# Altium footprint library PcbLib2.PcbLib: 31 footprints (part 2 of 2)
Each footprint in its own frame and in the unit in brackets; x right, y up, seen from the top. Pads: shape width x height; smd on the part's side, far side on the other; paste and mask are expansions set on the pad; w line width, h text height; cw(c..) or ccw(c..) is an arc to the next point about the centre after c.
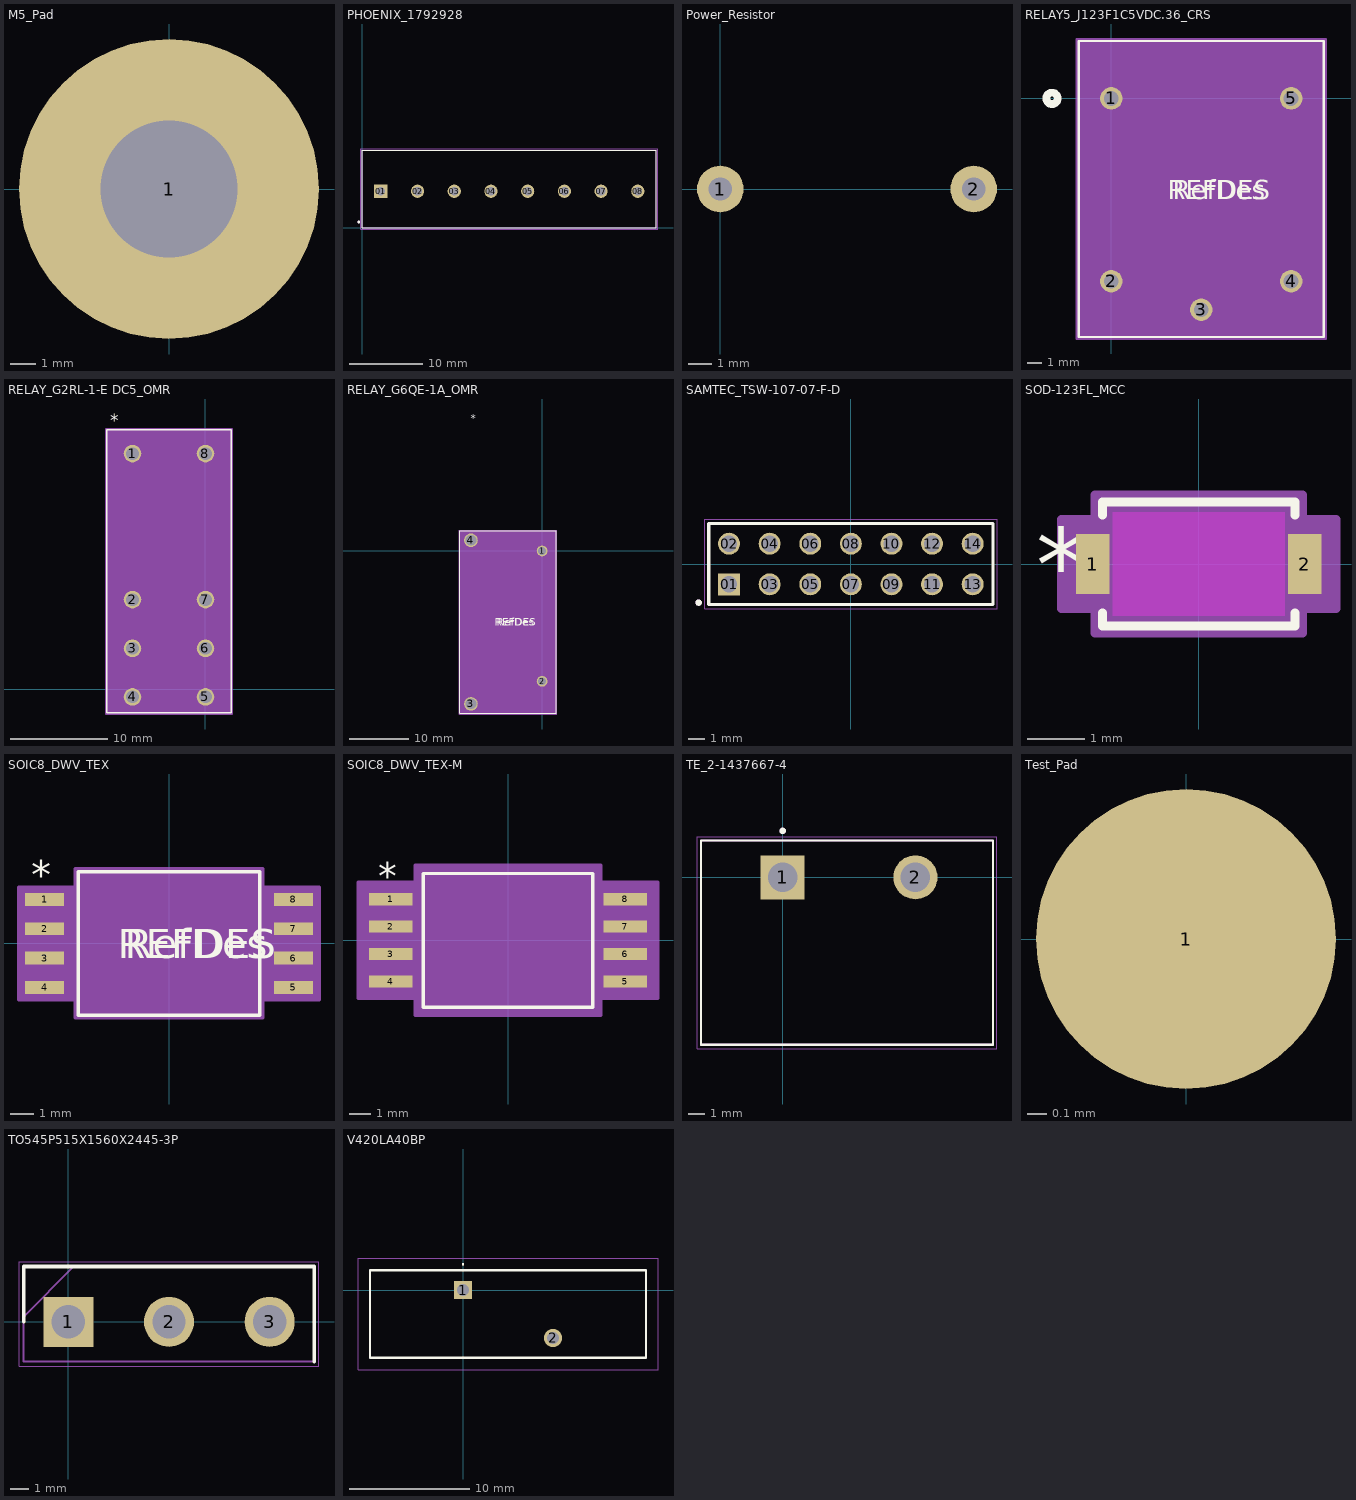
[diagram p1: the footprints below, top view; thin cyan lines are the x and y axes]

## M5_Pad [mm]
pads (1):
  round 12 hole 5.5: 1(0,0)

## PCBComponent_1 [mm]

## PHOENIX_1792928 [mm]
pads (8):
  rect 1.8x1.8 / inner round 1.8 / far side rect 1.8x1.8 hole 1.2: 01(2.5,4.95)
  round 1.8 hole 1.2: 02(7.5,4.95) 03(12.5,4.95) 04(17.5,4.95) 05(22.5,4.95) 06(27.5,4.95) 07(32.5,4.95) 08(37.5,4.95)
Top Overlay:
  circle w0.2: c-0.508,0.762 r0.1
  lines w0.127: 0,0 40,0 40,10.5 0,10.5 0,0
Mechanical 13:
  circle w0.2: c-0.508,0.762 r0.1
  lines w0.127: 0,0 40,0 40,10.5 0,10.5 0,0
Mechanical 15:
  lines w0.05: -0.25,-0.25 40.25,-0.25 40.25,10.75 -0.25,10.75 -0.25,-0.25
3D body "1792928.stp": height 13.6, standoff -2.5, extent 0,-0.05 40,10.45

## Power_Resistor [mm]
pads (2):
  round 2 hole 1: 1(0,0) 2(10.9,0)
3D body "PF2472-200RF1.stp": height 20, standoff -14.5, extent -2.5,-1.8 13.5,3

## RELAY5_J123F1C5VDC.36_CRS [mil]
pads (5):
  round 59 / inner round 60 / far side round 59 hole 39 paste-99999 mask+0: 1(0,0) 2(0,-480.31) 3(236.22,-555.12) 4(472.44,-480.31) 5(472.44,0)
Top Overlay:
  circle w20: c-155.78,0 r15
  lines w6: -85.78,-627.05 558.22,-627.05 558.22,150.95 -85.78,150.95 -85.78,-627.05
  text "RefDes" at 161.22,-265.16 h50
  text "REFDES" at 148.72,-265.16 h50
Bottom Overlay:
  circle w20: c-155.78,0 r15
Mechanical 13:
  circle w20: c0,75 r15
  lines w1: -80.78,-622.05 553.22,-622.05 553.22,145.95 -80.78,145.95 -80.78,-622.05
  text "RefDes2" at 148.72,-265.16 h50
Mechanical 15:
  region: 563.22,155.95 -90.78,155.95 -90.78,-632.05 563.22,-632.05
  lines w6: -90.78,-632.05 -90.78,155.95 563.22,155.95 563.22,-632.05 -90.78,-632.05

## RELAY_G2RL-1-E DC5_OMR [mil]
pads (8):
  round 71 / inner round 60 / far side round 71 hole 51 paste-99999 mask+0: 1(-295.28,952.76) 2(-295.28,362.2) 3(-295.28,165.35) 4(-295.28,-31.5) 5(0,-31.5) 6(0,165.35) 7(0,362.2) 8(0,952.76)
Top Overlay:
  lines w6: -398.7,-95.55 -398.7,1048.31 103.43,1048.31 103.43,-95.55 -398.7,-95.55
  text "*" at -385.83,1062.99 h50
Mechanical 13:
  lines w0: -159.64,1043.31 ccw(c-147.64,1043.31) -135.64,1043.31
  lines w1: -393.7,-90.55 -393.7,1043.31 98.43,1043.31 98.43,-90.55 -393.7,-90.55
Mechanical 15:
  region: 98.43,-90.55 -393.7,-90.55 -393.7,1043.31 98.43,1043.31
  region: 108.43,-100.55 -403.7,-100.55 -403.7,1053.31 108.43,1053.31
  lines w6: -403.7,-100.55 108.43,-100.55 108.43,1053.31 -403.7,1053.31 -403.7,-100.55
3D body "G2RL_1_E_HA.step": height 618.11, standoff -137.8, extent -397.64,-94.49 102.36,1047.24

## RELAY_G6QE-1A_OMR [mm]
pads (4):
  round 1.808 / inner round 1.524 / far side round 1.808 hole 1.3 paste-2539.97 mask+0: 1(0,0) 2(0,-22)
  round 2.308 / inner round 1.524 / far side round 2.308 hole 1.8 paste-2539.97 mask+0: 3(-12,-25.8) 4(-12,1.8)
Top Overlay:
  lines w0.152: -13.877,-27.377 -13.877,3.377 2.377,3.377 2.377,-27.377 -13.877,-27.377
  text "REFDES" at -7.972,-12.635 h1.27
  text "RefDes" at -7.655,-12.635 h1.27
  text "*" at -12.067,21.83 h1.27
Mechanical 13:
  lines w0: -6.055,3.25 ccw(c-5.75,3.25) -5.445,3.25
  lines w0.025: -13.75,-27.25 -13.75,3.25 2.25,3.25 2.25,-27.25 -13.75,-27.25
  text "RefDes2" at -7.972,-12.635 h1.27
  text "*" at -12.067,18.93 h1.27
Mechanical 15:
  region: 2.25,-27.25 -13.75,-27.25 -13.75,3.25 2.25,3.25
  region: 2.504,-27.504 -14.004,-27.504 -14.004,3.504 2.504,3.504
  lines w0.152: -14.004,-27.504 2.504,-27.504 2.504,3.504 -14.004,3.504 -14.004,-27.504

## SAMTEC_TSW-107-07-F-D [mm]
pads (14):
  rect 1.37x1.37 hole 1.02: 01(-7.62,-1.27)
  round 1.37 hole 1.02: 02(-7.62,1.27) 03(-5.08,-1.27) 04(-5.08,1.27) 05(-2.54,-1.27) 06(-2.54,1.27) 07(0,-1.27) 08(0,1.27) 09(2.54,-1.27) 10(2.54,1.27) 11(5.08,-1.27) 12(5.08,1.27) 13(7.62,-1.27) 14(7.62,1.27)
Top Overlay:
  circle w0.2: c-9.525,-2.413 r0.1
  lines w0.2: -8.89,-2.54 -8.89,2.54 8.89,2.54 8.89,-2.54 -8.89,-2.54
Mechanical 13:
  circle w0.2: c-9.525,-2.413 r0.1
  lines w0.1: -8.89,-2.54 -8.89,2.54 ; -8.89,-2.54 8.89,-2.54 ; -8.89,-2.54 -8.89,2.54 ; -8.89,2.54 8.89,2.54 ; -8.89,2.54 8.89,2.54 ; 8.89,-2.54 8.89,2.54 ; 8.89,-2.54 8.89,2.54
Mechanical 15:
  lines w0.05: -9.14,-2.79 -9.14,2.79 9.14,2.79 9.14,-2.79 -9.14,-2.79

## SOD-123FL_MCC [mil]
pads (2):
  rect 23x41 smd paste+0 mask+0: 1(-72.5,0) 2(72.5,0)
Top Layer keep-out:
  region: -59,-35.5 -59,35.5 59,35.5 59,-35.5
Top Overlay:
  lines w6: -66,-33.6 -66,-42.5 66,-42.5 66,-33.6 ; -66,33.6 -66,42.5 66,42.5 66,33.6
  text "*" at -111.5,-25 h50
Keep-Out Layer:
  region: -59,-35.5 -59,35.5 59,35.5 59,-35.5
Mechanical 13:
  lines w1: -61,-18.75 -42.25,-37.5 ; -61,18.75 -42.25,37.5 ; -76,-20.5 -61,-20.5 -61,20.5 -76,20.5 -76,-20.5 ; -61,-37.5 -61,37.5 61,37.5 61,-37.5 -61,-37.5 ; 61,-20.5 76,-20.5 76,20.5 61,20.5 61,-20.5
Mechanical 15:
  region: -71,-30.5 -94,-30.5 -94,30.5 -71,30.5 -71,47.5 71,47.5 71,30.5 94,30.5 94,-30.5 71,-30.5 71,-47.5 -71,-47.5
  lines w6: -94,-30.5 -71,-30.5 -71,-47.5 71,-47.5 71,-30.5 94,-30.5 94,30.5 71,30.5 71,47.5 -71,47.5 -71,30.5 -94,30.5 -94,-30.5
3D body "SOD-123FL_MCC.step": height 53.27, standoff 0, extent -75.98,-37.48 75.98,37.48

## SOIC8_DWV_TEX [mil]
pads (8):
  rect 67x22 smd paste+0 mask+0: 1(-212,75) 2(-212,25) 3(-212,-25) 4(-212,-75) 5(212,-75) 6(212,-25) 7(212,25) 8(212,75)
Top Overlay:
  lines w6: -154.5,-122 -154.5,122 154.5,122 154.5,-122 -154.5,-122
  text "RefDes" at -75,-25 h50
  text "*" at -234.5,92 h50
  text "REFDES" at -87.5,-25 h50
Mechanical 13:
  lines w0: -12,117 ccw(c0,117) 12,117
  lines w1: -231.5,-85 -149.5,-85 -149.5,-65 -231.5,-65 -231.5,-85 ; -231.5,-35 -149.5,-35 -149.5,-15 -231.5,-15 -231.5,-35 ; -231.5,15 -149.5,15 -149.5,35 -231.5,35 -231.5,15 ; -231.5,65 -149.5,65 -149.5,85 -231.5,85 -231.5,65 ; -149.5,-117 -149.5,117 149.5,117 149.5,-117 -149.5,-117 ; 149.5,-85 231.5,-85 231.5,-65 149.5,-65 149.5,-85 ; 149.5,-35 231.5,-35 231.5,-15 149.5,-15 149.5,-35 ; 149.5,15 231.5,15 231.5,35 149.5,35 149.5,15 ; 149.5,65 231.5,65 231.5,85 149.5,85 149.5,65
  text "RefDes2" at -87.5,-25 h50
  text "*" at -147,64 h50
Mechanical 15:
  region: -159.5,-96 -255.5,-96 -255.5,96 -159.5,96 -159.5,127 159.5,127 159.5,96 255.5,96 255.5,-96 159.5,-96 159.5,-127 -159.5,-127
  lines w6: -255.5,-96 -159.5,-96 -159.5,-127 159.5,-127 159.5,-96 255.5,-96 255.5,96 159.5,96 159.5,127 -159.5,127 -159.5,96 -255.5,96 -255.5,-96
3D body "SOIC8_DWV_TEX.step": height 110.12, standoff 0, extent -231.5,-117.01 231.5,117.01

## SOIC8_DWV_TEX-M [mil]
pads (8):
  rect 79x22 smd paste+0 mask+0: 1(-214,75) 2(-214,25) 3(-214,-25) 4(-214,-75) 5(214,-75) 6(214,-25) 7(214,25) 8(214,75)
Top Overlay:
  lines w6: -154.5,-122 154.5,-122 154.5,122 -154.5,122 -154.5,-122
  text "*" at -236.5,92 h50
Mechanical 13:
  lines w0: -12,117 ccw(c0,117) 12,117
  lines w1: -231.5,-85 -231.5,-65 -149.5,-65 -149.5,-85 -231.5,-85 ; -231.5,-35 -231.5,-15 -149.5,-15 -149.5,-35 -231.5,-35 ; -231.5,15 -231.5,35 -149.5,35 -149.5,15 -231.5,15 ; -231.5,65 -231.5,85 -149.5,85 -149.5,65 -231.5,65 ; -149.5,-117 149.5,-117 149.5,117 -149.5,117 -149.5,-117 ; 149.5,-85 149.5,-65 231.5,-65 231.5,-85 149.5,-85 ; 149.5,-35 149.5,-15 231.5,-15 231.5,-35 149.5,-35 ; 149.5,15 149.5,35 231.5,35 231.5,15 149.5,15 ; 149.5,65 149.5,85 231.5,85 231.5,65 149.5,65
Mechanical 15:
  region: -169.5,-106 -273.5,-106 -273.5,106 -169.5,106 -169.5,137 169.5,137 169.5,106 273.5,106 273.5,-106 169.5,-106 169.5,-137 -169.5,-137
  lines w6: -273.5,-106 -273.5,106 -169.5,106 -169.5,137 169.5,137 169.5,106 273.5,106 273.5,-106 169.5,-106 169.5,-137 -169.5,-137 -169.5,-106 -273.5,-106
3D body "SOIC8_DWV_TEX.step": height 110.12, standoff 0, extent -231.5,-117.01 231.5,117.01

## TE_2-1437667-4 [mil]
pads (2):
  rect 108x108 hole 72: 1(0,0)
  round 108 hole 72: 2(325,0)
Top Overlay:
  circle w7.87: c0,113.78 r3.94
  lines w5: -200,-410 -200,90 515,90 515,-410 -200,-410
Mechanical 13:
  circle w7.87: c0,113.78 r3.94
  lines w5: -200,-410 -200,90 515,90 515,-410 -200,-410
Mechanical 15:
  lines w1.97: -209.84,-419.84 524.84,-419.84 524.84,99.84 -209.84,99.84 -209.84,-419.84
3D body "c-2-1437667-4-n-3d.stp": height 570, standoff -160, extent -200.02,-409.45 514.98,90.55

## Test_Pad [mil]
pads (1):
  round 60 smd: 1(0,0)

## TO545P515X1560X2445-3P [mm]
pads (3):
  rect 2.715x2.715 / inner round 2.715 / far side rect 2.715x2.715 hole 1.81: 1(0,0)
  round 2.715 hole 1.81: 2(5.45,0) 3(10.9,0)
Top Overlay:
  lines w0.2: -2.425,0 -2.425,3 13.325,3 13.325,-2.15
Mechanical 15:
  lines w0.1: -2.425,0.275 0.3,3 ; -2.425,-2.15 13.325,-2.15 13.325,3 -2.425,3 -2.425,-2.15
Mechanical 20:
  lines w0.05: -2.675,-2.4 13.575,-2.4 13.575,3.25 -2.675,3.25 -2.675,-2.4
3D body "STGW20NC60VD.step": height 25.1, standoff -10, extent -2.3,-2.1 13.3,2.9

## V420LA40BP [mm]
pads (2):
  rect 1.515x1.515 hole 1.01: 1(0,0)
  round 1.515 hole 1.01: 2(7.5,-4)
Top Overlay:
  lines w0.1: 0,2.1 ccw(c0,2.15) 0,2.2 ccw(c0,2.15) 0,2.1
  lines w0.2: -7.75,-5.65 -7.75,1.65 15.25,1.65 15.25,-5.65 -7.75,-5.65
Mechanical 15:
  lines w0.1: -7.75,-5.65 -7.75,1.65 15.25,1.65 15.25,-5.65 -7.75,-5.65
Mechanical 20:
  lines w0.1: -8.75,-6.65 -8.75,2.65 16.25,2.65 16.25,-6.65 -8.75,-6.65
3D body "V420LA40BP.stp": height 27.97, standoff -25.4, extent -7.8,-7.4 15.2,3.4